# EAGLE library part JOYSTICK (library iceberg20)
Multi-direktionale Schalter 4 Dir Center Push 50mA 12V DC Datenblatt: Link <https://www.mouser.de/datasheet/2/15/skqu-1155891.pdf>
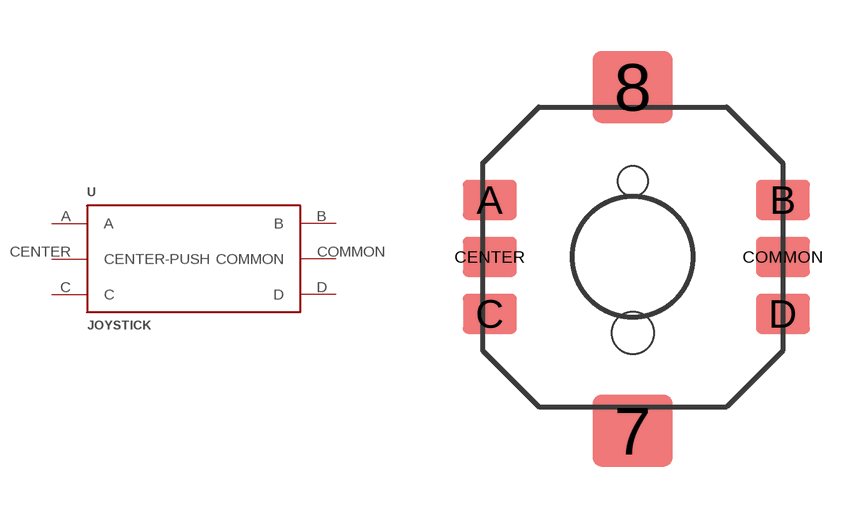
[diagram p19: symbol with the pads of SKRHAAE010; footprint SKRHAAE010]

Designator prefix -

## JOYSTICK (BESTAND: 0; HERSTELLER: ALPS; HERSTELLER-NR: SKRHAAE010; SUPPLIER: Mouser; SUPPLIER-NR: 688-SKRHAAE010)  [SKRHAAE010]
A  A
B  B
C  C
CENTER  CENTER-PUSH
COMMON  COMMON
D  D

## Footprint SKRHAAE010 (pad centres in mm)
smd 2 x 1.8: 7 0,-4.35; 8 0,4.25
smd 1.35 x 1: A -3.575,1.425; B 3.757,1.425; C -3.575,-1.425; CENTER -3.575,0; COMMON 3.757,0; D 3.757,-1.425
hole 0.75 at 0,1.9
hole 1.05 at 0,-1.9